# EAGLE library part RT8258 (library capstone)
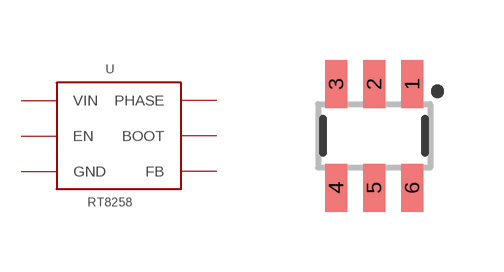
[diagram p1: symbol with the pads of SOT23-6; footprint SOT23-6]

Designator prefix U

## RT8258  [SOT23-6]
1  BOOT
2  GND
3  FB
4  EN
5  VIN
6  PHASE

## Footprint SOT23-6 (pad centres in mm)
SOT23-6 Specifications: Pin count: 6 Example device(s): MCP4725
smd 0.55 x 1.2: 1 0.95,1.3; 2 0,1.3; 3 -0.95,1.3; 4 -0.95,-1.3; 5 0,-1.3; 6 0.95,-1.3